# Altium schematic symbol library jlcpcb_2025_04_inductors_extended_1210.schlib: 422 symbols (part 4 of 8)
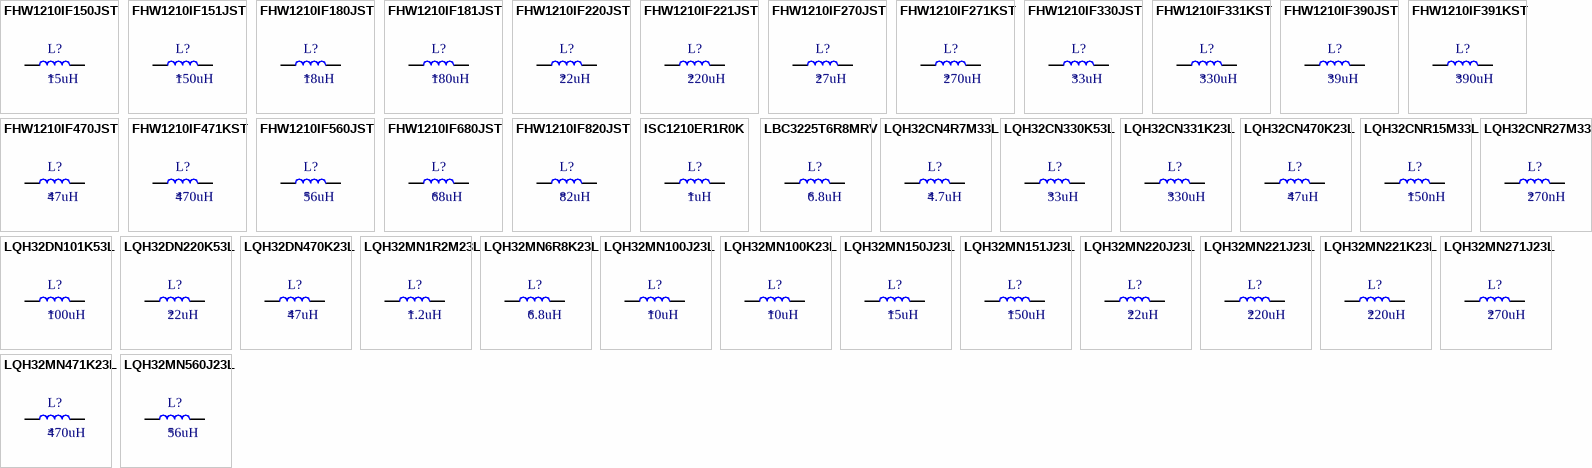
[diagram p13: symbols FHW1210IF150JST to LQH32MN560J23L]

## LQH32MN221J23L
designator L?  Inductance: 220uH
Inductor, 220uH, ±5%, 11.8Ω, 65mA, SMD 1210; Manufacturer: Murata Electronics; Manufacturer Part Number: LQH32MN221J23L; Package Size: 1210; JLCPCB Basic Part: No; JLCPCB Part Number: C701186; Supplier 1: LCSC; Category: Inductors; Supplier Part Number 1: C701186; Tolerance: ±5%; Rated Current: 65mA; DC Resistance: 11.8Ω; RoHS: Yes; ComponentLink1Description: Datasheet; ComponentLink1URL: https://wmsc.lcsc.com/wmsc/upload/file/pdf/v2/lcsc/2010231205_Murata-Electronics-LQH32MN221J23L_C701186.pdf; ComponentLink2Description: JLCPCB Part URL; ComponentLink2URL: https://jlcpcb.com/partdetail/C701186; ComponentLink3Description: LCSC Part URL; ComponentLink3URL: https://lcsc.com/product-detail/Power-Inductors_Murata-Electronics-Murata-Electronics-LQH32MN221J23L_C701186.html
footprint IND-1210 (1210 (3225M) Inductor)
pins: 1, 2

## LQH32MN221K23L
designator L?  Inductance: 220uH
Inductor, 220uH, ±10%, 11.8Ω, 65mA, SMD 1210; Manufacturer: Murata Electronics; Manufacturer Part Number: LQH32MN221K23L; Package Size: 1210; JLCPCB Basic Part: No; JLCPCB Part Number: C527972; Supplier 1: LCSC; Category: Inductors; Supplier Part Number 1: C527972; Tolerance: ±10%; Rated Current: 65mA; DC Resistance: 11.8Ω; RoHS: Yes; ComponentLink1Description: Datasheet; ComponentLink1URL: https://wmsc.lcsc.com/wmsc/upload/file/pdf/v2/lcsc/2304140030_Murata-Electronics-LQH32MN221K23L_C527972.pdf; ComponentLink2Description: JLCPCB Part URL; ComponentLink2URL: https://jlcpcb.com/partdetail/C527972; ComponentLink3Description: LCSC Part URL; ComponentLink3URL: https://lcsc.com/product-detail/Power-Inductors_Murata-Electronics-Murata-Electronics-LQH32MN221K23L_C527972.html
footprint IND-1210 (1210 (3225M) Inductor)
pins: 1, 2

## LQH32MN271J23L
designator L?  Inductance: 270uH
Inductor, 270uH, ±5%, 12.5Ω, 65mA, SMD 1210; Manufacturer: Murata Electronics; Manufacturer Part Number: LQH32MN271J23L; Package Size: 1210; JLCPCB Basic Part: No; JLCPCB Part Number: C440219; Supplier 1: LCSC; Category: Inductors; Supplier Part Number 1: C440219; Tolerance: ±5%; Rated Current: 65mA; DC Resistance: 12.5Ω; RoHS: Yes; ComponentLink1Description: Datasheet; ComponentLink1URL: https://wmsc.lcsc.com/wmsc/upload/file/pdf/v2/lcsc/2304140030_Murata-Electronics-LQH32MN271J23L_C440219.pdf; ComponentLink2Description: JLCPCB Part URL; ComponentLink2URL: https://jlcpcb.com/partdetail/C440219; ComponentLink3Description: LCSC Part URL; ComponentLink3URL: https://lcsc.com/product-detail/Power-Inductors_Murata-Electronics-Murata-Electronics-LQH32MN271J23L_C440219.html
footprint IND-1210 (1210 (3225M) Inductor)
pins: 1, 2

## LQH32MN471K23L
designator L?  Inductance: 470uH
Inductor, 470uH, ±10%, 25Ω, 45mA, SMD 1210; Manufacturer: Murata Electronics; Manufacturer Part Number: LQH32MN471K23L; Package Size: 1210; JLCPCB Basic Part: No; JLCPCB Part Number: C603128; Supplier 1: LCSC; Category: Inductors; Supplier Part Number 1: C603128; Tolerance: ±10%; Rated Current: 45mA; DC Resistance: 25Ω; RoHS: Yes; ComponentLink1Description: Datasheet; ComponentLink1URL: https://wmsc.lcsc.com/wmsc/upload/file/pdf/v2/lcsc/2304140030_Murata-Electronics-LQH32MN471K23L_C603128.pdf; ComponentLink2Description: JLCPCB Part URL; ComponentLink2URL: https://jlcpcb.com/partdetail/C603128; ComponentLink3Description: LCSC Part URL; ComponentLink3URL: https://lcsc.com/product-detail/Power-Inductors_Murata-Electronics-Murata-Electronics-LQH32MN471K23L_C603128.html
footprint IND-1210 (1210 (3225M) Inductor)
pins: 1, 2

## LQH32MN560J23L
designator L?  Inductance: 56uH
Inductor, 56uH, ±5%, 4.9Ω, 85mA, SMD 1210; Manufacturer: Murata Electronics; Manufacturer Part Number: LQH32MN560J23L; Package Size: 1210; JLCPCB Basic Part: No; JLCPCB Part Number: C440223; Supplier 1: LCSC; Category: Inductors; Supplier Part Number 1: C440223; Tolerance: ±5%; Rated Current: 85mA; DC Resistance: 4.9Ω; RoHS: Yes; ComponentLink1Description: Datasheet; ComponentLink1URL: https://wmsc.lcsc.com/wmsc/upload/file/pdf/v2/lcsc/2304140030_Murata-Electronics-LQH32MN560J23L_C440223.pdf; ComponentLink2Description: JLCPCB Part URL; ComponentLink2URL: https://jlcpcb.com/partdetail/C440223; ComponentLink3Description: LCSC Part URL; ComponentLink3URL: https://lcsc.com/product-detail/Power-Inductors_Murata-Electronics-Murata-Electronics-LQH32MN560J23L_C440223.html
footprint IND-1210 (1210 (3225M) Inductor)
pins: 1, 2

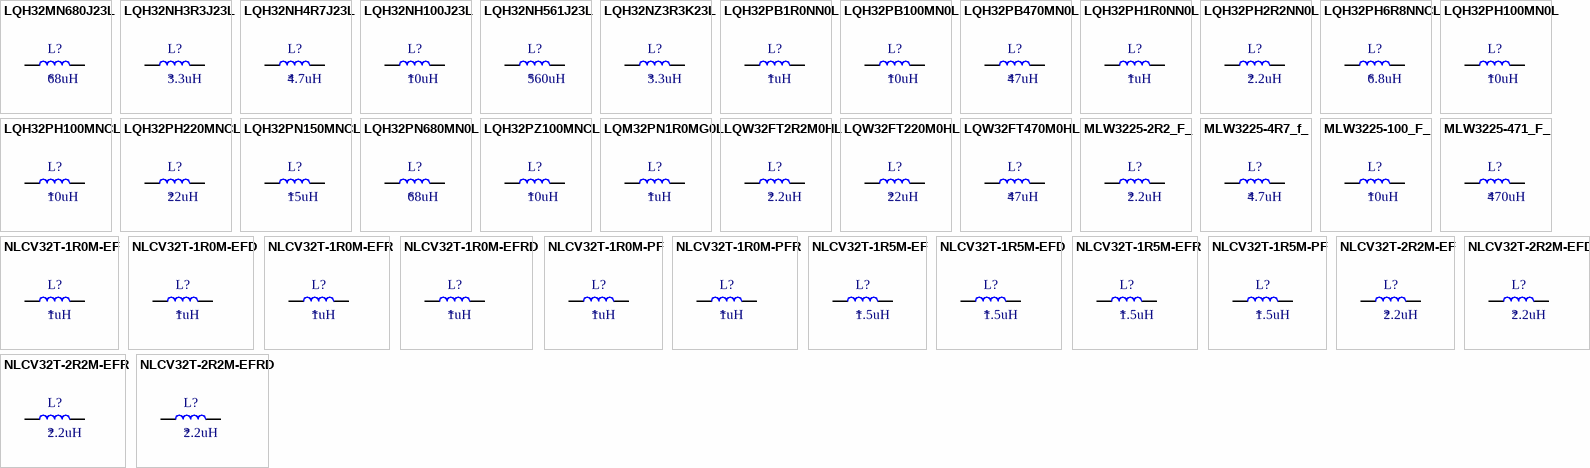
[diagram p4: symbols LQH32MN680J23L to NLCV32T-2R2M-EFRD]

## LQH32MN680J23L
designator L?  Inductance: 68uH
Inductor, 68uH, ±5%, 5.5Ω, SMD 1210; Manufacturer: Murata Electronics; Manufacturer Part Number: LQH32MN680J23L; Self-Resonant Frequency: 9MHz; Package Size: 1210; JLCPCB Basic Part: No; JLCPCB Part Number: C237321; Supplier 1: LCSC; Category: Inductors; Supplier Part Number 1: C237321; Tolerance: ±5%; DC Resistance: 5.5Ω; RoHS: Yes; ComponentLink1Description: Datasheet; ComponentLink1URL: https://wmsc.lcsc.com/wmsc/upload/file/pdf/v2/lcsc/2304140030_Murata-Electronics-LQH32MN680J23L_C237321.pdf; ComponentLink2Description: JLCPCB Part URL; ComponentLink2URL: https://jlcpcb.com/partdetail/C237321; ComponentLink3Description: LCSC Part URL; ComponentLink3URL: https://lcsc.com/product-detail/Inductors-SMD_Murata-Electronics-Murata-Electronics-LQH32MN680J23L_C237321.html
footprint IND-1210 (1210 (3225M) Inductor)
pins: 1, 2

## LQH32NH3R3J23L
designator L?  Inductance: 3.3uH
Inductor, 3.3uH, ±5%, 200mΩ, 425mA, SMD 1210; Manufacturer: Murata Electronics; Manufacturer Part Number: LQH32NH3R3J23L; Package Size: 1210; JLCPCB Basic Part: No; JLCPCB Part Number: C883491; Supplier 1: LCSC; Category: Inductors; Supplier Part Number 1: C883491; Tolerance: ±5%; Rated Current: 425mA; DC Resistance: 200mΩ; RoHS: Yes; ComponentLink1Description: Datasheet; ComponentLink1URL: https://wmsc.lcsc.com/wmsc/upload/file/pdf/v2/lcsc/2012231842_Murata-Electronics-LQH32NH3R3J23L_C883491.pdf; ComponentLink2Description: JLCPCB Part URL; ComponentLink2URL: https://jlcpcb.com/partdetail/C883491; ComponentLink3Description: LCSC Part URL; ComponentLink3URL: https://lcsc.com/product-detail/Power-Inductors_Murata-Electronics-Murata-Electronics-LQH32NH3R3J23L_C883491.html
footprint IND-1210 (1210 (3225M) Inductor)
pins: 1, 2

## LQH32NH4R7J23L
designator L?  Inductance: 4.7uH
Inductor, 4.7uH, ±5%, 210mΩ, 420mA, SMD 1210; Manufacturer: Murata Electronics; Manufacturer Part Number: LQH32NH4R7J23L; Package Size: 1210; JLCPCB Basic Part: No; JLCPCB Part Number: C2044651; Supplier 1: LCSC; Category: Inductors; Supplier Part Number 1: C2044651; Tolerance: ±5%; Rated Current: 420mA; DC Resistance: 210mΩ; RoHS: Yes; ComponentLink1Description: Datasheet; ComponentLink1URL: https://wmsc.lcsc.com/wmsc/upload/file/pdf/v2/lcsc/2304140030_Murata-Electronics-LQH32NH4R7J23L_C2044651.pdf; ComponentLink2Description: JLCPCB Part URL; ComponentLink2URL: https://jlcpcb.com/partdetail/C2044651; ComponentLink3Description: LCSC Part URL; ComponentLink3URL: https://lcsc.com/product-detail/Power-Inductors_Murata-Electronics-Murata-Electronics-LQH32NH4R7J23L_C2044651.html
footprint IND-1210 (1210 (3225M) Inductor)
pins: 1, 2

## LQH32NH100J23L
designator L?  Inductance: 10uH
Inductor, 10uH, ±5%, 340mΩ, 325mA, SMD 1210; Manufacturer: Murata Electronics; Manufacturer Part Number: LQH32NH100J23L; Package Size: 1210; JLCPCB Basic Part: No; JLCPCB Part Number: C2045047; Supplier 1: LCSC; Category: Inductors; Supplier Part Number 1: C2045047; Tolerance: ±5%; Rated Current: 325mA; DC Resistance: 340mΩ; RoHS: Yes; ComponentLink1Description: Datasheet; ComponentLink1URL: https://wmsc.lcsc.com/wmsc/upload/file/pdf/v2/lcsc/2304140030_Murata-Electronics-LQH32NH100J23L_C2045047.pdf; ComponentLink2Description: JLCPCB Part URL; ComponentLink2URL: https://jlcpcb.com/partdetail/C2045047; ComponentLink3Description: LCSC Part URL; ComponentLink3URL: https://lcsc.com/product-detail/Power-Inductors_Murata-Electronics-Murata-Electronics-LQH32NH100J23L_C2045047.html
footprint IND-1210 (1210 (3225M) Inductor)
pins: 1, 2

## LQH32NH561J23L
designator L?  Inductance: 560uH
Inductor, 560uH, ±5%, 14.6Ω, 40mA, SMD 1210; Manufacturer: Murata Electronics; Manufacturer Part Number: LQH32NH561J23L; Package Size: 1210; JLCPCB Basic Part: No; JLCPCB Part Number: C560068; Supplier 1: LCSC; Category: Inductors; Supplier Part Number 1: C560068; Tolerance: ±5%; Rated Current: 40mA; DC Resistance: 14.6Ω; RoHS: Yes; ComponentLink1Description: Datasheet; ComponentLink1URL: https://wmsc.lcsc.com/wmsc/upload/file/pdf/v2/lcsc/2304140030_Murata-Electronics-LQH32NH561J23L_C560068.pdf; ComponentLink2Description: JLCPCB Part URL; ComponentLink2URL: https://jlcpcb.com/partdetail/C560068; ComponentLink3Description: LCSC Part URL; ComponentLink3URL: https://lcsc.com/product-detail/Power-Inductors_Murata-Electronics-Murata-Electronics-LQH32NH561J23L_C560068.html
footprint IND-1210 (1210 (3225M) Inductor)
pins: 1, 2

## LQH32NZ3R3K23L
designator L?  Inductance: 3.3uH
Inductor, 3.3uH, ±10%, 1Ω, 300mA, SMD 1210; Manufacturer: Murata Electronics; Manufacturer Part Number: LQH32NZ3R3K23L; Package Size: 1210; JLCPCB Basic Part: No; JLCPCB Part Number: C560067; Supplier 1: LCSC; Category: Inductors; Supplier Part Number 1: C560067; Tolerance: ±10%; Rated Current: 300mA; DC Resistance: 1Ω; RoHS: Yes; ComponentLink1Description: Datasheet; ComponentLink1URL: https://wmsc.lcsc.com/wmsc/upload/file/pdf/v2/lcsc/2304140030_Murata-Electronics-LQH32NZ3R3K23L_C560067.pdf; ComponentLink2Description: JLCPCB Part URL; ComponentLink2URL: https://jlcpcb.com/partdetail/C560067; ComponentLink3Description: LCSC Part URL; ComponentLink3URL: https://lcsc.com/product-detail/Power-Inductors_Murata-Electronics-Murata-Electronics-LQH32NZ3R3K23L_C560067.html
footprint IND-1210 (1210 (3225M) Inductor)
pins: 1, 2

## LQH32PB1R0NN0L
designator L?  Inductance: 1uH
Inductor, 1uH, ±30%, 45mΩ, 2.05A, SMD 1210; Manufacturer: Murata Electronics; Manufacturer Part Number: LQH32PB1R0NN0L; Saturation Current: 2.3A; Package Size: 1210; JLCPCB Basic Part: No; JLCPCB Part Number: C703785; Supplier 1: LCSC; Category: Inductors; Supplier Part Number 1: C703785; Tolerance: ±30%; Rated Current: 2.05A; DC Resistance: 45mΩ; RoHS: Yes; ComponentLink1Description: Datasheet; ComponentLink1URL: https://wmsc.lcsc.com/wmsc/upload/file/pdf/v2/lcsc/2304140030_Murata-Electronics-LQH32PB1R0NN0L_C703785.pdf; ComponentLink2Description: JLCPCB Part URL; ComponentLink2URL: https://jlcpcb.com/partdetail/C703785; ComponentLink3Description: LCSC Part URL; ComponentLink3URL: https://lcsc.com/product-detail/Power-Inductors_Murata-Electronics-Murata-Electronics-LQH32PB1R0NN0L_C703785.html
footprint IND-1210 (1210 (3225M) Inductor)
pins: 1, 2

## LQH32PB100MN0L
designator L?  Inductance: 10uH
Inductor, 10uH, ±20%, 380mΩ, 700mA, SMD 1210; Manufacturer: Murata Electronics; Manufacturer Part Number: LQH32PB100MN0L; Saturation Current: 750mA; Package Size: 1210; JLCPCB Basic Part: No; JLCPCB Part Number: C703786; Supplier 1: LCSC; Category: Inductors; Supplier Part Number 1: C703786; Tolerance: ±20%; Rated Current: 700mA; DC Resistance: 380mΩ; RoHS: Yes; ComponentLink1Description: Datasheet; ComponentLink1URL: https://wmsc.lcsc.com/wmsc/upload/file/pdf/v2/lcsc/2008101235_Murata-Electronics-LQH32PB100MN0L_C703786.pdf; ComponentLink2Description: JLCPCB Part URL; ComponentLink2URL: https://jlcpcb.com/partdetail/C703786; ComponentLink3Description: LCSC Part URL; ComponentLink3URL: https://lcsc.com/product-detail/Power-Inductors_Murata-Electronics-Murata-Electronics-LQH32PB100MN0L_C703786.html
footprint IND-1210 (1210 (3225M) Inductor)
pins: 1, 2

## LQH32PB470MN0L
designator L?  Inductance: 47uH
Inductor, 47uH, ±20%, 1.78Ω, SMD 1210; Manufacturer: Murata Electronics; Manufacturer Part Number: LQH32PB470MN0L; Self-Resonant Frequency: 11MHz; Package Size: 1210; JLCPCB Basic Part: No; JLCPCB Part Number: C341773; Supplier 1: LCSC; Category: Inductors; Supplier Part Number 1: C341773; Tolerance: ±20%; DC Resistance: 1.78Ω; RoHS: Yes; ComponentLink1Description: Datasheet; ComponentLink1URL: https://wmsc.lcsc.com/wmsc/upload/file/pdf/v2/lcsc/1912111437_Murata-Electronics-LQH32PB470MN0L_C341773.pdf; ComponentLink2Description: JLCPCB Part URL; ComponentLink2URL: https://jlcpcb.com/partdetail/C341773; ComponentLink3Description: LCSC Part URL; ComponentLink3URL: https://lcsc.com/product-detail/Inductors-SMD_Murata-Electronics-Murata-Electronics-LQH32PB470MN0L_C341773.html
footprint IND-1210 (1210 (3225M) Inductor)
pins: 1, 2

## LQH32PH1R0NN0L
designator L?  Inductance: 1uH
Inductor, 1uH, ±30%, 45mΩ, 2.05A, SMD 1210; Manufacturer: Murata Electronics; Manufacturer Part Number: LQH32PH1R0NN0L; Saturation Current: 2.3A; Package Size: 1210; JLCPCB Basic Part: No; JLCPCB Part Number: C703782; Supplier 1: LCSC; Category: Inductors; Supplier Part Number 1: C703782; Tolerance: ±30%; Rated Current: 2.05A; DC Resistance: 45mΩ; RoHS: Yes; ComponentLink1Description: Datasheet; ComponentLink1URL: https://wmsc.lcsc.com/wmsc/upload/file/pdf/v2/lcsc/2304140030_Murata-Electronics-LQH32PH1R0NN0L_C703782.pdf; ComponentLink2Description: JLCPCB Part URL; ComponentLink2URL: https://jlcpcb.com/partdetail/C703782; ComponentLink3Description: LCSC Part URL; ComponentLink3URL: https://lcsc.com/product-detail/Power-Inductors_Murata-Electronics-Murata-Electronics-LQH32PH1R0NN0L_C703782.html
footprint IND-1210 (1210 (3225M) Inductor)
pins: 1, 2

## LQH32PH2R2NN0L
designator L?  Inductance: 2.2uH
Inductor, 2.2uH, ±30%, 76mΩ, SMD 1210; Manufacturer: Murata Electronics; Manufacturer Part Number: LQH32PH2R2NN0L; Saturation Current: 1.55A; Package Size: 1210; JLCPCB Basic Part: No; JLCPCB Part Number: C883489; Supplier 1: LCSC; Category: Inductors; Supplier Part Number 1: C883489; Tolerance: ±30%; DC Resistance: 76mΩ; RoHS: Yes; ComponentLink1Description: Datasheet; ComponentLink1URL: https://wmsc.lcsc.com/wmsc/upload/file/pdf/v2/lcsc/2304140030_Murata-Electronics-LQH32PH2R2NN0L_C883489.pdf; ComponentLink2Description: JLCPCB Part URL; ComponentLink2URL: https://jlcpcb.com/partdetail/C883489; ComponentLink3Description: LCSC Part URL; ComponentLink3URL: https://lcsc.com/product-detail/Power-Inductors_Murata-Electronics-Murata-Electronics-LQH32PH2R2NN0L_C883489.html
footprint IND-1210 (1210 (3225M) Inductor)
pins: 1, 2

## LQH32PH6R8NNCL
designator L?  Inductance: 6.8uH
Inductor, 6.8uH, ±30%, 220mΩ, 1.1A, SMD 1210; Manufacturer: Murata Electronics; Manufacturer Part Number: LQH32PH6R8NNCL; Saturation Current: 1.3A; Self-Resonant Frequency: 40MHz; Package Size: 1210; JLCPCB Basic Part: No; JLCPCB Part Number: C1330927; Supplier 1: LCSC; Category: Inductors; Supplier Part Number 1: C1330927; Tolerance: ±30%; Rated Current: 1.1A; DC Resistance: 220mΩ; RoHS: Yes; ComponentLink1Description: Datasheet; ComponentLink1URL: https://wmsc.lcsc.com/wmsc/upload/file/pdf/v2/lcsc/2304140030_Murata-Electronics-LQH32PH6R8NNCL_C1330927.pdf; ComponentLink2Description: JLCPCB Part URL; ComponentLink2URL: https://jlcpcb.com/partdetail/C1330927; ComponentLink3Description: LCSC Part URL; ComponentLink3URL: https://lcsc.com/product-detail/Inductors-SMD_Murata-Electronics-Murata-Electronics-LQH32PH6R8NNCL_C1330927.html
footprint IND-1210 (1210 (3225M) Inductor)
pins: 1, 2

## LQH32PH100MN0L
designator L?  Inductance: 10uH
Inductor, 10uH, ±20%, 380mΩ, SMD 1210; Manufacturer: Murata Electronics; Manufacturer Part Number: LQH32PH100MN0L; Self-Resonant Frequency: 30MHz; Package Size: 1210; JLCPCB Basic Part: No; JLCPCB Part Number: C907910; Supplier 1: LCSC; Category: Inductors; Supplier Part Number 1: C907910; Tolerance: ±20%; DC Resistance: 380mΩ; RoHS: Yes; ComponentLink1Description: Datasheet; ComponentLink1URL: https://wmsc.lcsc.com/wmsc/upload/file/pdf/v2/lcsc/2304140030_Murata-Electronics-LQH32PH100MN0L_C907910.pdf; ComponentLink2Description: JLCPCB Part URL; ComponentLink2URL: https://jlcpcb.com/partdetail/C907910; ComponentLink3Description: LCSC Part URL; ComponentLink3URL: https://lcsc.com/product-detail/Inductors-SMD_Murata-Electronics-Murata-Electronics-LQH32PH100MN0L_C907910.html
footprint IND-1210 (1210 (3225M) Inductor)
pins: 1, 2

## LQH32PH100MNCL
designator L?  Inductance: 10uH
Inductor, 10uH, ±20%, 295mΩ, 900mA, SMD 1210; Manufacturer: Murata Electronics; Manufacturer Part Number: LQH32PH100MNCL; Saturation Current: 1A; Package Size: 1210; JLCPCB Basic Part: No; JLCPCB Part Number: C703784; Supplier 1: LCSC; Category: Inductors; Supplier Part Number 1: C703784; Tolerance: ±20%; Rated Current: 900mA; DC Resistance: 295mΩ; RoHS: Yes; ComponentLink1Description: Datasheet; ComponentLink1URL: https://wmsc.lcsc.com/wmsc/upload/file/pdf/v2/lcsc/2304140030_Murata-Electronics-LQH32PH100MNCL_C703784.pdf; ComponentLink2Description: JLCPCB Part URL; ComponentLink2URL: https://jlcpcb.com/partdetail/C703784; ComponentLink3Description: LCSC Part URL; ComponentLink3URL: https://lcsc.com/product-detail/Power-Inductors_Murata-Electronics-Murata-Electronics-LQH32PH100MNCL_C703784.html
footprint IND-1210 (1210 (3225M) Inductor)
pins: 1, 2

## LQH32PH220MNCL
designator L?  Inductance: 22uH
Inductor, 22uH, ±20%, 685mΩ, SMD 1210; Manufacturer: Murata Electronics; Manufacturer Part Number: LQH32PH220MNCL; Self-Resonant Frequency: 20MHz; Package Size: 1210; JLCPCB Basic Part: No; JLCPCB Part Number: C307600; Supplier 1: LCSC; Category: Inductors; Supplier Part Number 1: C307600; Tolerance: ±20%; DC Resistance: 685mΩ; RoHS: Yes; ComponentLink1Description: Datasheet; ComponentLink1URL: https://wmsc.lcsc.com/wmsc/upload/file/pdf/v2/lcsc/1912111437_Murata-Electronics-LQH32PH220MNCL_C307600.pdf; ComponentLink2Description: JLCPCB Part URL; ComponentLink2URL: https://jlcpcb.com/partdetail/C307600; ComponentLink3Description: LCSC Part URL; ComponentLink3URL: https://lcsc.com/product-detail/Inductors-SMD_Murata-Electronics-Murata-Electronics-LQH32PH220MNCL_C307600.html
footprint IND-1210 (1210 (3225M) Inductor)
pins: 1, 2

## LQH32PN150MNCL
designator L?  Inductance: 15uH
Inductor, 15uH, ±20%, 570mΩ, 700mA, SMD 1210; Manufacturer: Murata Electronics; Manufacturer Part Number: LQH32PN150MNCL; Saturation Current: 800mA; Package Size: 1210; JLCPCB Basic Part: No; JLCPCB Part Number: C711135; Supplier 1: LCSC; Category: Inductors; Supplier Part Number 1: C711135; Tolerance: ±20%; Rated Current: 700mA; DC Resistance: 570mΩ; RoHS: Yes; ComponentLink1Description: Datasheet; ComponentLink1URL: https://wmsc.lcsc.com/wmsc/upload/file/pdf/v2/lcsc/2211030130_Murata-Electronics-LQH32PN150MNCL_C711135.pdf; ComponentLink2Description: JLCPCB Part URL; ComponentLink2URL: https://jlcpcb.com/partdetail/C711135; ComponentLink3Description: LCSC Part URL; ComponentLink3URL: https://lcsc.com/product-detail/Power-Inductors_Murata-Electronics-Murata-Electronics-LQH32PN150MNCL_C711135.html
footprint IND-1210 (1210 (3225M) Inductor)
pins: 1, 2

## LQH32PN680MN0L
designator L?  Inductance: 68uH
Inductor, 68uH, ±20%, 2.74Ω, 275mA, SMD 1210; Manufacturer: Murata Electronics; Manufacturer Part Number: LQH32PN680MN0L; Saturation Current: 280mA; Package Size: 1210; JLCPCB Basic Part: No; JLCPCB Part Number: C2049546; Supplier 1: LCSC; Category: Inductors; Supplier Part Number 1: C2049546; Tolerance: ±20%; Rated Current: 275mA; DC Resistance: 2.74Ω; RoHS: Yes; ComponentLink1Description: Datasheet; ComponentLink1URL: https://wmsc.lcsc.com/wmsc/upload/file/pdf/v2/lcsc/2401261034_Murata-Electronics-LQH32PN680MN0L_C2049546.pdf; ComponentLink2Description: JLCPCB Part URL; ComponentLink2URL: https://jlcpcb.com/partdetail/C2049546; ComponentLink3Description: LCSC Part URL; ComponentLink3URL: https://lcsc.com/product-detail/Power-Inductors_Murata-Electronics-Murata-Electronics-LQH32PN680MN0L_C2049546.html
footprint IND-1210 (1210 (3225M) Inductor)
pins: 1, 2

## LQH32PZ100MNCL
designator L?  Inductance: 10uH
Inductor, 10uH, ±20%, 295mΩ, 900mA, SMD 1210; Manufacturer: Murata Electronics; Manufacturer Part Number: LQH32PZ100MNCL; Saturation Current: 1A; Self-Resonant Frequency: 30MHz; Package Size: 1210; JLCPCB Basic Part: No; JLCPCB Part Number: C464437; Supplier 1: LCSC; Category: Inductors; Supplier Part Number 1: C464437; Tolerance: ±20%; Rated Current: 900mA; DC Resistance: 295mΩ; RoHS: Yes; ComponentLink1Description: Datasheet; ComponentLink1URL: https://wmsc.lcsc.com/wmsc/upload/file/pdf/v2/lcsc/1912111437_Murata-Electronics-LQH32PZ100MNCL_C464437.pdf; ComponentLink2Description: JLCPCB Part URL; ComponentLink2URL: https://jlcpcb.com/partdetail/C464437; ComponentLink3Description: LCSC Part URL; ComponentLink3URL: https://lcsc.com/product-detail/Inductors-SMD_Murata-Electronics-Murata-Electronics-LQH32PZ100MNCL_C464437.html
footprint IND-1210 (1210 (3225M) Inductor)
pins: 1, 2

## LQM32PN1R0MG0L
designator L?  Inductance: 1uH
Inductor, 1uH, ±20%, 60mΩ, 1.8A, SMD 1210; Manufacturer: Murata Electronics; Manufacturer Part Number: LQM32PN1R0MG0L; Self-Resonant Frequency: 1MHz; Package Size: 1210; JLCPCB Basic Part: No; JLCPCB Part Number: C527588; Supplier 1: LCSC; Category: Inductors; Supplier Part Number 1: C527588; Tolerance: ±20%; Rated Current: 1.8A; DC Resistance: 60mΩ; RoHS: Yes; ComponentLink1Description: Datasheet; ComponentLink1URL: https://wmsc.lcsc.com/wmsc/upload/file/pdf/v2/lcsc/2304140030_Murata-Electronics-LQM32PN1R0MG0L_C527588.pdf; ComponentLink2Description: JLCPCB Part URL; ComponentLink2URL: https://jlcpcb.com/partdetail/C527588; ComponentLink3Description: LCSC Part URL; ComponentLink3URL: https://lcsc.com/product-detail/Inductors-SMD_Murata-Electronics-Murata-Electronics-LQM32PN1R0MG0L_C527588.html
footprint IND-1210 (1210 (3225M) Inductor)
pins: 1, 2

## LQW32FT2R2M0HL
designator L?  Inductance: 2.2uH
Inductor, 2.2uH, ±20%, 190mΩ, 1A, SMD 1210; Manufacturer: Murata Electronics; Manufacturer Part Number: LQW32FT2R2M0HL; Self-Resonant Frequency: 200MHz; Package Size: 1210; JLCPCB Basic Part: No; JLCPCB Part Number: C883486; Supplier 1: LCSC; Category: Inductors; Supplier Part Number 1: C883486; Tolerance: ±20%; Rated Current: 1A; Saturation Current: 1A; DC Resistance: 190mΩ; RoHS: Yes; ComponentLink1Description: Datasheet; ComponentLink1URL: https://wmsc.lcsc.com/wmsc/upload/file/pdf/v2/lcsc/2111181830_Murata-Electronics-LQW32FT2R2M0HL_C883486.pdf; ComponentLink2Description: JLCPCB Part URL; ComponentLink2URL: https://jlcpcb.com/partdetail/C883486; ComponentLink3Description: LCSC Part URL; ComponentLink3URL: https://lcsc.com/product-detail/Inductors-SMD_Murata-Electronics-Murata-Electronics-LQW32FT2R2M0HL_C883486.html
footprint IND-1210 (1210 (3225M) Inductor)
pins: 1, 2

## LQW32FT220M0HL
designator L?  Inductance: 22uH
Inductor, 22uH, ±20%, 620mΩ, 400mA, SMD 1210; Manufacturer: Murata Electronics; Manufacturer Part Number: LQW32FT220M0HL; Package Size: 1210; JLCPCB Basic Part: No; JLCPCB Part Number: C2045315; Supplier 1: LCSC; Category: Inductors; Supplier Part Number 1: C2045315; Tolerance: ±20%; Rated Current: 400mA; Saturation Current: 400mA; DC Resistance: 620mΩ; RoHS: Yes; ComponentLink1Description: Datasheet; ComponentLink1URL: https://wmsc.lcsc.com/wmsc/upload/file/pdf/v2/lcsc/2304140030_Murata-Electronics-LQW32FT220M0HL_C2045315.pdf; ComponentLink2Description: JLCPCB Part URL; ComponentLink2URL: https://jlcpcb.com/partdetail/C2045315; ComponentLink3Description: LCSC Part URL; ComponentLink3URL: https://lcsc.com/product-detail/Power-Inductors_Murata-Electronics-Murata-Electronics-LQW32FT220M0HL_C2045315.html
footprint IND-1210 (1210 (3225M) Inductor)
pins: 1, 2

## LQW32FT470M0HL
designator L?  Inductance: 47uH
Inductor, 47uH, ±20%, 900mΩ, 300mA, SMD 1210; Manufacturer: Murata Electronics; Manufacturer Part Number: LQW32FT470M0HL; Package Size: 1210; JLCPCB Basic Part: No; JLCPCB Part Number: C907956; Supplier 1: LCSC; Category: Inductors; Supplier Part Number 1: C907956; Tolerance: ±20%; Rated Current: 300mA; Saturation Current: 300mA; DC Resistance: 900mΩ; RoHS: Yes; ComponentLink1Description: Datasheet; ComponentLink1URL: https://wmsc.lcsc.com/wmsc/upload/file/pdf/v2/lcsc/2201242100_Murata-Electronics-LQW32FT470M0HL_C907956.pdf; ComponentLink2Description: JLCPCB Part URL; ComponentLink2URL: https://jlcpcb.com/partdetail/C907956; ComponentLink3Description: LCSC Part URL; ComponentLink3URL: https://lcsc.com/product-detail/Power-Inductors_Murata-Electronics-Murata-Electronics-LQW32FT470M0HL_C907956.html
footprint IND-1210 (1210 (3225M) Inductor)
pins: 1, 2

## MLW3225-2R2_F_
designator L?  Inductance: 2.2uH
Inductor, 2.2uH, ±5%, 1Ω, 320mA, SMD 1210; Manufacturer: Meled; Manufacturer Part Number: MLW3225-2R2(F); Package Size: 1210; JLCPCB Basic Part: No; JLCPCB Part Number: C36828; Supplier 1: LCSC; Category: Inductors; Supplier Part Number 1: C36828; Tolerance: ±5%; Rated Current: 320mA; DC Resistance: 1Ω; RoHS: Yes; ComponentLink1Description: Datasheet; ComponentLink1URL: https://wmsc.lcsc.com/wmsc/upload/file/pdf/v2/lcsc/1811081811_MetalLions-MLW3225-2R2-F_C36828.pdf; ComponentLink2Description: JLCPCB Part URL; ComponentLink2URL: https://jlcpcb.com/partdetail/C36828; ComponentLink3Description: LCSC Part URL; ComponentLink3URL: https://lcsc.com/product-detail/Inductors-SMD_Meled-Meled-MLW3225-2R2F_C36828.html
footprint IND-1210 (1210 (3225M) Inductor)
pins: 1, 2

## MLW3225-4R7_f_
designator L?  Inductance: 4.7uH
Inductor, 4.7uH, ±5%, 1.6Ω, 220mA, SMD 1210; Manufacturer: Meled; Manufacturer Part Number: MLW3225-4R7(f); Package Size: 1210; JLCPCB Basic Part: No; JLCPCB Part Number: C56767; Supplier 1: LCSC; Category: Inductors; Supplier Part Number 1: C56767; Tolerance: ±5%; Rated Current: 220mA; DC Resistance: 1.6Ω; RoHS: Yes; ComponentLink1Description: Datasheet; ComponentLink1URL: https://wmsc.lcsc.com/wmsc/upload/file/pdf/v2/lcsc/1809191912_MetalLions-MLW3225-4R7-f_C56767.pdf; ComponentLink2Description: JLCPCB Part URL; ComponentLink2URL: https://jlcpcb.com/partdetail/C56767; ComponentLink3Description: LCSC Part URL; ComponentLink3URL: https://lcsc.com/product-detail/Inductors-SMD_Meled-Meled-MLW3225-4R7f_C56767.html
footprint IND-1210 (1210 (3225M) Inductor)
pins: 1, 2

## MLW3225-100_F_
designator L?  Inductance: 10uH
Inductor, 10uH, ±5%, 2.1Ω, 150mA, SMD 1210; Manufacturer: Meled; Manufacturer Part Number: MLW3225-100(F); Package Size: 1210; JLCPCB Basic Part: No; JLCPCB Part Number: C31961; Supplier 1: LCSC; Category: Inductors; Supplier Part Number 1: C31961; Tolerance: ±5%; Rated Current: 150mA; DC Resistance: 2.1Ω; RoHS: Yes; ComponentLink1Description: Datasheet; ComponentLink1URL: https://wmsc.lcsc.com/wmsc/upload/file/pdf/v2/lcsc/1810261633_MetalLions-MLW3225-100-F_C31961.pdf; ComponentLink2Description: JLCPCB Part URL; ComponentLink2URL: https://jlcpcb.com/partdetail/C31961; ComponentLink3Description: LCSC Part URL; ComponentLink3URL: https://lcsc.com/product-detail/Inductors-SMD_Meled-Meled-MLW3225-100F_C31961.html
footprint IND-1210 (1210 (3225M) Inductor)
pins: 1, 2

## MLW3225-471_F_
designator L?  Inductance: 470uH
Inductor, 470uH, ±5%, 40Ω, 25mA, SMD 1210; Manufacturer: Meled; Manufacturer Part Number: MLW3225-471(F); Package Size: 1210; JLCPCB Basic Part: No; JLCPCB Part Number: C63833; Supplier 1: LCSC; Category: Inductors; Supplier Part Number 1: C63833; Tolerance: ±5%; Rated Current: 25mA; DC Resistance: 40Ω; RoHS: Yes; ComponentLink1Description: Datasheet; ComponentLink1URL: https://wmsc.lcsc.com/wmsc/upload/file/pdf/v2/lcsc/1809301612_MetalLions-MLW3225-471-F_C63833.pdf; ComponentLink2Description: JLCPCB Part URL; ComponentLink2URL: https://jlcpcb.com/partdetail/C63833; ComponentLink3Description: LCSC Part URL; ComponentLink3URL: https://lcsc.com/product-detail/Inductors-SMD_Meled-Meled-MLW3225-471F_C63833.html
footprint IND-1210 (1210 (3225M) Inductor)
pins: 1, 2

## NLCV32T-1R0M-EF
designator L?  Inductance: 1uH
Inductor, 1uH, ±20%, 60mΩ, 1A, SMD 1210; Manufacturer: TDK; Manufacturer Part Number: NLCV32T-1R0M-EF; Self-Resonant Frequency: 100MHz; Q Factor: 10@7.96MHz; Package Size: 1210; JLCPCB Basic Part: No; JLCPCB Part Number: C250225; Supplier 1: LCSC; Category: Inductors; Supplier Part Number 1: C250225; Tolerance: ±20%; Rated Current: 1A; DC Resistance: 60mΩ; RoHS: Yes; ComponentLink1Description: Datasheet; ComponentLink1URL: https://wmsc.lcsc.com/wmsc/upload/file/pdf/v2/lcsc/2304140030_TDK-NLCV32T-1R0M-EF_C250225.pdf; ComponentLink2Description: JLCPCB Part URL; ComponentLink2URL: https://jlcpcb.com/partdetail/C250225; ComponentLink3Description: LCSC Part URL; ComponentLink3URL: https://lcsc.com/product-detail/Inductors-SMD_TDK-TDK-NLCV32T-1R0M-EF_C250225.html
footprint IND-1210 (1210 (3225M) Inductor)
pins: 1, 2

## NLCV32T-1R0M-EFD
designator L?  Inductance: 1uH
Inductor, 1uH, ±20%, 60mΩ, 1A, SMD 1210; Manufacturer: TDK; Manufacturer Part Number: NLCV32T-1R0M-EFD; Self-Resonant Frequency: 100MHz; Q Factor: 10@7.96MHz; Package Size: 1210; JLCPCB Basic Part: No; JLCPCB Part Number: C295380; Supplier 1: LCSC; Category: Inductors; Supplier Part Number 1: C295380; Tolerance: ±20%; Rated Current: 1A; DC Resistance: 60mΩ; RoHS: Yes; ComponentLink1Description: Datasheet; ComponentLink1URL: https://wmsc.lcsc.com/wmsc/upload/file/pdf/v2/lcsc/2304140030_TDK-NLCV32T-1R0M-EFD_C295380.pdf; ComponentLink2Description: JLCPCB Part URL; ComponentLink2URL: https://jlcpcb.com/partdetail/C295380; ComponentLink3Description: LCSC Part URL; ComponentLink3URL: https://lcsc.com/product-detail/Inductors-SMD_TDK-TDK-NLCV32T-1R0M-EFD_C295380.html
footprint IND-1210 (1210 (3225M) Inductor)
pins: 1, 2

## NLCV32T-1R0M-EFR
designator L?  Inductance: 1uH
Inductor, 1uH, ±20%, 55mΩ, 1.7A, SMD 1210; Manufacturer: TDK; Manufacturer Part Number: NLCV32T-1R0M-EFR; Q Factor: 15@7.96MHz; Package Size: 1210; JLCPCB Basic Part: No; JLCPCB Part Number: C295197; Supplier 1: LCSC; Category: Inductors; Supplier Part Number 1: C295197; Tolerance: ±20%; Rated Current: 1.7A; DC Resistance: 55mΩ; RoHS: Yes; ComponentLink1Description: Datasheet; ComponentLink1URL: https://wmsc.lcsc.com/wmsc/upload/file/pdf/v2/lcsc/2304140030_TDK-NLCV32T-1R0M-EFR_C295197.pdf; ComponentLink2Description: JLCPCB Part URL; ComponentLink2URL: https://jlcpcb.com/partdetail/C295197; ComponentLink3Description: LCSC Part URL; ComponentLink3URL: https://lcsc.com/product-detail/Inductors-SMD_TDK-TDK-NLCV32T-1R0M-EFR_C295197.html
footprint IND-1210 (1210 (3225M) Inductor)
pins: 1, 2

## NLCV32T-1R0M-EFRD
designator L?  Inductance: 1uH
Inductor, 1uH, ±20%, 55mΩ, 1.7A, SMD 1210; Manufacturer: TDK; Manufacturer Part Number: NLCV32T-1R0M-EFRD; Self-Resonant Frequency: 100MHz; Q Factor: 15@7.96MHz; Package Size: 1210; JLCPCB Basic Part: No; JLCPCB Part Number: C286543; Supplier 1: LCSC; Category: Inductors; Supplier Part Number 1: C286543; Tolerance: ±20%; Rated Current: 1.7A; DC Resistance: 55mΩ; RoHS: Yes; ComponentLink1Description: Datasheet; ComponentLink1URL: https://wmsc.lcsc.com/wmsc/upload/file/pdf/v2/lcsc/2304140030_TDK-NLCV32T-1R0M-EFRD_C286543.pdf; ComponentLink2Description: JLCPCB Part URL; ComponentLink2URL: https://jlcpcb.com/partdetail/C286543; ComponentLink3Description: LCSC Part URL; ComponentLink3URL: https://lcsc.com/product-detail/Inductors-SMD_TDK-TDK-NLCV32T-1R0M-EFRD_C286543.html
footprint IND-1210 (1210 (3225M) Inductor)
pins: 1, 2

## NLCV32T-1R0M-PF
designator L?  Inductance: 1uH
Inductor, 1uH, ±20%, 60mΩ, 1A, SMD 1210; Manufacturer: TDK; Manufacturer Part Number: NLCV32T-1R0M-PF; Self-Resonant Frequency: 100MHz; Q Factor: 10@7.96MHz; Package Size: 1210; JLCPCB Basic Part: No; JLCPCB Part Number: C250182; Supplier 1: LCSC; Category: Inductors; Supplier Part Number 1: C250182; Tolerance: ±20%; Rated Current: 1A; DC Resistance: 60mΩ; RoHS: Yes; ComponentLink1Description: Datasheet; ComponentLink1URL: https://wmsc.lcsc.com/wmsc/upload/file/pdf/v2/lcsc/2304140030_TDK-NLCV32T-1R0M-PF_C250182.pdf; ComponentLink2Description: JLCPCB Part URL; ComponentLink2URL: https://jlcpcb.com/partdetail/C250182; ComponentLink3Description: LCSC Part URL; ComponentLink3URL: https://lcsc.com/product-detail/Inductors-SMD_TDK-TDK-NLCV32T-1R0M-PF_C250182.html
footprint IND-1210 (1210 (3225M) Inductor)
pins: 1, 2

## NLCV32T-1R0M-PFR
designator L?  Inductance: 1uH
Inductor, 1uH, ±20%, 55mΩ, 1.7A, SMD 1210; Manufacturer: TDK; Manufacturer Part Number: NLCV32T-1R0M-PFR; Self-Resonant Frequency: 100MHz; Q Factor: 15@7.96MHz; Package Size: 1210; JLCPCB Basic Part: No; JLCPCB Part Number: C501992; Supplier 1: LCSC; Category: Inductors; Supplier Part Number 1: C501992; Tolerance: ±20%; Rated Current: 1.7A; DC Resistance: 55mΩ; RoHS: Yes; ComponentLink1Description: Datasheet; ComponentLink1URL: https://wmsc.lcsc.com/wmsc/upload/file/pdf/v2/lcsc/2304140030_TDK-NLCV32T-1R0M-PFR_C501992.pdf; ComponentLink2Description: JLCPCB Part URL; ComponentLink2URL: https://jlcpcb.com/partdetail/C501992; ComponentLink3Description: LCSC Part URL; ComponentLink3URL: https://lcsc.com/product-detail/Inductors-SMD_TDK-TDK-NLCV32T-1R0M-PFR_C501992.html
footprint IND-1210 (1210 (3225M) Inductor)
pins: 1, 2

## NLCV32T-1R5M-EF
designator L?  Inductance: 1.5uH
Inductor, 1.5uH, ±20%, 110mΩ, 830mA, SMD 1210; Manufacturer: TDK; Manufacturer Part Number: NLCV32T-1R5M-EF; Self-Resonant Frequency: 80MHz; Q Factor: 10@7.96MHz; Package Size: 1210; JLCPCB Basic Part: No; JLCPCB Part Number: C250226; Supplier 1: LCSC; Category: Inductors; Supplier Part Number 1: C250226; Tolerance: ±20%; Rated Current: 830mA; DC Resistance: 110mΩ; RoHS: Yes; ComponentLink1Description: Datasheet; ComponentLink1URL: https://wmsc.lcsc.com/wmsc/upload/file/pdf/v2/lcsc/2304140030_TDK-NLCV32T-1R5M-EF_C250226.pdf; ComponentLink2Description: JLCPCB Part URL; ComponentLink2URL: https://jlcpcb.com/partdetail/C250226; ComponentLink3Description: LCSC Part URL; ComponentLink3URL: https://lcsc.com/product-detail/Inductors-SMD_TDK-TDK-NLCV32T-1R5M-EF_C250226.html
footprint IND-1210 (1210 (3225M) Inductor)
pins: 1, 2

## NLCV32T-1R5M-EFD
designator L?  Inductance: 1.5uH
Inductor, 1.5uH, ±20%, 110mΩ, 830mA, SMD 1210; Manufacturer: TDK; Manufacturer Part Number: NLCV32T-1R5M-EFD; Self-Resonant Frequency: 80MHz; Q Factor: 10@7.96MHz; Package Size: 1210; JLCPCB Basic Part: No; JLCPCB Part Number: C295381; Supplier 1: LCSC; Category: Inductors; Supplier Part Number 1: C295381; Tolerance: ±20%; Rated Current: 830mA; DC Resistance: 110mΩ; RoHS: Yes; ComponentLink1Description: Datasheet; ComponentLink1URL: https://wmsc.lcsc.com/wmsc/upload/file/pdf/v2/lcsc/2304140030_TDK-NLCV32T-1R5M-EFD_C295381.pdf; ComponentLink2Description: JLCPCB Part URL; ComponentLink2URL: https://jlcpcb.com/partdetail/C295381; ComponentLink3Description: LCSC Part URL; ComponentLink3URL: https://lcsc.com/product-detail/Inductors-SMD_TDK-TDK-NLCV32T-1R5M-EFD_C295381.html
footprint IND-1210 (1210 (3225M) Inductor)
pins: 1, 2

## NLCV32T-1R5M-EFR
designator L?  Inductance: 1.5uH
Inductor, 1.5uH, ±20%, 95mΩ, 1.4A, SMD 1210; Manufacturer: TDK; Manufacturer Part Number: NLCV32T-1R5M-EFR; Q Factor: 15@7.96MHz; Package Size: 1210; JLCPCB Basic Part: No; JLCPCB Part Number: C286544; Supplier 1: LCSC; Category: Inductors; Supplier Part Number 1: C286544; Tolerance: ±20%; Rated Current: 1.4A; DC Resistance: 95mΩ; RoHS: Yes; ComponentLink1Description: Datasheet; ComponentLink1URL: https://wmsc.lcsc.com/wmsc/upload/file/pdf/v2/lcsc/2304140030_TDK-NLCV32T-1R5M-EFR_C286544.pdf; ComponentLink2Description: JLCPCB Part URL; ComponentLink2URL: https://jlcpcb.com/partdetail/C286544; ComponentLink3Description: LCSC Part URL; ComponentLink3URL: https://lcsc.com/product-detail/Inductors-SMD_TDK-TDK-NLCV32T-1R5M-EFR_C286544.html
footprint IND-1210 (1210 (3225M) Inductor)
pins: 1, 2

## NLCV32T-1R5M-PF
designator L?  Inductance: 1.5uH
Inductor, 1.5uH, ±20%, 110mΩ, 830mA, SMD 1210; Manufacturer: TDK; Manufacturer Part Number: NLCV32T-1R5M-PF; Self-Resonant Frequency: 80MHz; Q Factor: 10@7.96MHz; Package Size: 1210; JLCPCB Basic Part: No; JLCPCB Part Number: C87556; Supplier 1: LCSC; Category: Inductors; Supplier Part Number 1: C87556; Tolerance: ±20%; Rated Current: 830mA; DC Resistance: 110mΩ; RoHS: Yes; ComponentLink1Description: Datasheet; ComponentLink1URL: https://wmsc.lcsc.com/wmsc/upload/file/pdf/v2/lcsc/2304140030_TDK-NLCV32T-1R5M-PF_C87556.pdf; ComponentLink2Description: JLCPCB Part URL; ComponentLink2URL: https://jlcpcb.com/partdetail/C87556; ComponentLink3Description: LCSC Part URL; ComponentLink3URL: https://lcsc.com/product-detail/Inductors-SMD_TDK-TDK-NLCV32T-1R5M-PF_C87556.html
footprint IND-1210 (1210 (3225M) Inductor)
pins: 1, 2

## NLCV32T-2R2M-EF
designator L?  Inductance: 2.2uH
Inductor, 2.2uH, ±20%, 130mΩ, 770mA, SMD 1210; Manufacturer: TDK; Manufacturer Part Number: NLCV32T-2R2M-EF; Self-Resonant Frequency: 68MHz; Q Factor: 10@7.96MHz; Package Size: 1210; JLCPCB Basic Part: No; JLCPCB Part Number: C250227; Supplier 1: LCSC; Category: Inductors; Supplier Part Number 1: C250227; Tolerance: ±20%; Rated Current: 770mA; DC Resistance: 130mΩ; RoHS: Yes; ComponentLink1Description: Datasheet; ComponentLink1URL: https://wmsc.lcsc.com/wmsc/upload/file/pdf/v2/lcsc/2304140030_TDK-NLCV32T-2R2M-EF_C250227.pdf; ComponentLink2Description: JLCPCB Part URL; ComponentLink2URL: https://jlcpcb.com/partdetail/C250227; ComponentLink3Description: LCSC Part URL; ComponentLink3URL: https://lcsc.com/product-detail/Inductors-SMD_TDK-TDK-NLCV32T-2R2M-EF_C250227.html
footprint IND-1210 (1210 (3225M) Inductor)
pins: 1, 2

## NLCV32T-2R2M-EFD
designator L?  Inductance: 2.2uH
Inductor, 2.2uH, ±20%, 130mΩ, 770mA, SMD 1210; Manufacturer: TDK; Manufacturer Part Number: NLCV32T-2R2M-EFD; Self-Resonant Frequency: 68MHz; Q Factor: 10@7.96MHz; Package Size: 1210; JLCPCB Basic Part: No; JLCPCB Part Number: C286545; Supplier 1: LCSC; Category: Inductors; Supplier Part Number 1: C286545; Tolerance: ±20%; Rated Current: 770mA; DC Resistance: 130mΩ; RoHS: Yes; ComponentLink1Description: Datasheet; ComponentLink1URL: https://wmsc.lcsc.com/wmsc/upload/file/pdf/v2/lcsc/2304140030_TDK-NLCV32T-2R2M-EFD_C286545.pdf; ComponentLink2Description: JLCPCB Part URL; ComponentLink2URL: https://jlcpcb.com/partdetail/C286545; ComponentLink3Description: LCSC Part URL; ComponentLink3URL: https://lcsc.com/product-detail/Inductors-SMD_TDK-TDK-NLCV32T-2R2M-EFD_C286545.html
footprint IND-1210 (1210 (3225M) Inductor)
pins: 1, 2

## NLCV32T-2R2M-EFR
designator L?  Inductance: 2.2uH
Inductor, 2.2uH, ±20%, 115mΩ, 1.2A, SMD 1210; Manufacturer: TDK; Manufacturer Part Number: NLCV32T-2R2M-EFR; Self-Resonant Frequency: 68MHz; Q Factor: 15@7.96MHz; Package Size: 1210; JLCPCB Basic Part: No; JLCPCB Part Number: C295335; Supplier 1: LCSC; Category: Inductors; Supplier Part Number 1: C295335; Tolerance: ±20%; Rated Current: 1.2A; DC Resistance: 115mΩ; RoHS: Yes; ComponentLink1Description: Datasheet; ComponentLink1URL: https://wmsc.lcsc.com/wmsc/upload/file/pdf/v2/lcsc/2304140030_TDK-NLCV32T-2R2M-EFR_C295335.pdf; ComponentLink2Description: JLCPCB Part URL; ComponentLink2URL: https://jlcpcb.com/partdetail/C295335; ComponentLink3Description: LCSC Part URL; ComponentLink3URL: https://lcsc.com/product-detail/Inductors-SMD_TDK-TDK-NLCV32T-2R2M-EFR_C295335.html
footprint IND-1210 (1210 (3225M) Inductor)
pins: 1, 2

## NLCV32T-2R2M-EFRD
designator L?  Inductance: 2.2uH
Inductor, 2.2uH, ±20%, 115mΩ, 1.2A, SMD 1210; Manufacturer: TDK; Manufacturer Part Number: NLCV32T-2R2M-EFRD; Q Factor: 15@7.96MHz; Package Size: 1210; JLCPCB Basic Part: No; JLCPCB Part Number: C295402; Supplier 1: LCSC; Category: Inductors; Supplier Part Number 1: C295402; Tolerance: ±20%; Rated Current: 1.2A; DC Resistance: 115mΩ; RoHS: Yes; ComponentLink1Description: Datasheet; ComponentLink1URL: https://wmsc.lcsc.com/wmsc/upload/file/pdf/v2/lcsc/2304140030_TDK-NLCV32T-2R2M-EFRD_C295402.pdf; ComponentLink2Description: JLCPCB Part URL; ComponentLink2URL: https://jlcpcb.com/partdetail/C295402; ComponentLink3Description: LCSC Part URL; ComponentLink3URL: https://lcsc.com/product-detail/Inductors-SMD_TDK-TDK-NLCV32T-2R2M-EFRD_C295402.html
footprint IND-1210 (1210 (3225M) Inductor)
pins: 1, 2

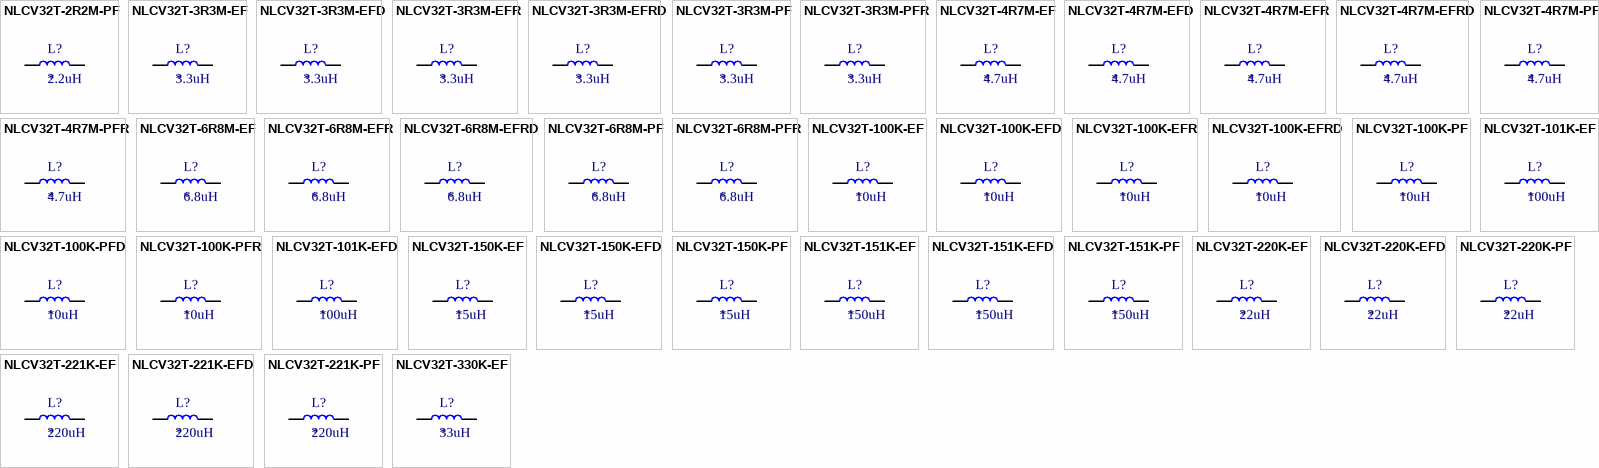
[diagram p5: symbols NLCV32T-2R2M-PF to NLCV32T-330K-EF]

## NLCV32T-2R2M-PF
designator L?  Inductance: 2.2uH
Inductor, 2.2uH, ±20%, 130mΩ, 770mA, SMD 1210; Manufacturer: TDK; Manufacturer Part Number: NLCV32T-2R2M-PF; Self-Resonant Frequency: 68MHz; Q Factor: 10@7.96MHz; Package Size: 1210; JLCPCB Basic Part: No; JLCPCB Part Number: C250183; Supplier 1: LCSC; Category: Inductors; Supplier Part Number 1: C250183; Tolerance: ±20%; Rated Current: 770mA; DC Resistance: 130mΩ; RoHS: Yes; ComponentLink1Description: Datasheet; ComponentLink1URL: https://wmsc.lcsc.com/wmsc/upload/file/pdf/v2/lcsc/2304140030_TDK-NLCV32T-2R2M-PF_C250183.pdf; ComponentLink2Description: JLCPCB Part URL; ComponentLink2URL: https://jlcpcb.com/partdetail/C250183; ComponentLink3Description: LCSC Part URL; ComponentLink3URL: https://lcsc.com/product-detail/Inductors-SMD_TDK-TDK-NLCV32T-2R2M-PF_C250183.html
footprint IND-1210 (1210 (3225M) Inductor)
pins: 1, 2

## NLCV32T-3R3M-EF
designator L?  Inductance: 3.3uH
Inductor, 3.3uH, ±20%, 160mΩ, 690mA, SMD 1210; Manufacturer: TDK; Manufacturer Part Number: NLCV32T-3R3M-EF; Self-Resonant Frequency: 54MHz; Q Factor: 10@7.96MHz; Package Size: 1210; JLCPCB Basic Part: No; JLCPCB Part Number: C250228; Supplier 1: LCSC; Category: Inductors; Supplier Part Number 1: C250228; Tolerance: ±20%; Rated Current: 690mA; DC Resistance: 160mΩ; RoHS: Yes; ComponentLink1Description: Datasheet; ComponentLink1URL: https://wmsc.lcsc.com/wmsc/upload/file/pdf/v2/lcsc/2304140030_TDK-NLCV32T-3R3M-EF_C250228.pdf; ComponentLink2Description: JLCPCB Part URL; ComponentLink2URL: https://jlcpcb.com/partdetail/C250228; ComponentLink3Description: LCSC Part URL; ComponentLink3URL: https://lcsc.com/product-detail/Inductors-SMD_TDK-TDK-NLCV32T-3R3M-EF_C250228.html
footprint IND-1210 (1210 (3225M) Inductor)
pins: 1, 2

## NLCV32T-3R3M-EFD
designator L?  Inductance: 3.3uH
Inductor, 3.3uH, ±20%, 160mΩ, 690mA, SMD 1210; Manufacturer: TDK; Manufacturer Part Number: NLCV32T-3R3M-EFD; Self-Resonant Frequency: 54MHz; Q Factor: 10@7.96MHz; Package Size: 1210; JLCPCB Basic Part: No; JLCPCB Part Number: C295385; Supplier 1: LCSC; Category: Inductors; Supplier Part Number 1: C295385; Tolerance: ±20%; Rated Current: 690mA; DC Resistance: 160mΩ; RoHS: Yes; ComponentLink1Description: Datasheet; ComponentLink1URL: https://wmsc.lcsc.com/wmsc/upload/file/pdf/v2/lcsc/2304140030_TDK-NLCV32T-3R3M-EFD_C295385.pdf; ComponentLink2Description: JLCPCB Part URL; ComponentLink2URL: https://jlcpcb.com/partdetail/C295385; ComponentLink3Description: LCSC Part URL; ComponentLink3URL: https://lcsc.com/product-detail/Inductors-SMD_TDK-TDK-NLCV32T-3R3M-EFD_C295385.html
footprint IND-1210 (1210 (3225M) Inductor)
pins: 1, 2

## NLCV32T-3R3M-EFR
designator L?  Inductance: 3.3uH
Inductor, 3.3uH, ±20%, 160mΩ, 1A, SMD 1210; Manufacturer: TDK; Manufacturer Part Number: NLCV32T-3R3M-EFR; Self-Resonant Frequency: 54MHz; Q Factor: 15@7.96MHz; Package Size: 1210; JLCPCB Basic Part: No; JLCPCB Part Number: C295198; Supplier 1: LCSC; Category: Inductors; Supplier Part Number 1: C295198; Tolerance: ±20%; Rated Current: 1A; DC Resistance: 160mΩ; RoHS: Yes; ComponentLink1Description: Datasheet; ComponentLink1URL: https://wmsc.lcsc.com/wmsc/upload/file/pdf/v2/lcsc/2304140030_TDK-NLCV32T-3R3M-EFR_C295198.pdf; ComponentLink2Description: JLCPCB Part URL; ComponentLink2URL: https://jlcpcb.com/partdetail/C295198; ComponentLink3Description: LCSC Part URL; ComponentLink3URL: https://lcsc.com/product-detail/Inductors-SMD_TDK-TDK-NLCV32T-3R3M-EFR_C295198.html
footprint IND-1210 (1210 (3225M) Inductor)
pins: 1, 2

## NLCV32T-3R3M-EFRD
designator L?  Inductance: 3.3uH
Inductor, 3.3uH, ±20%, 160mΩ, 1A, SMD 1210; Manufacturer: TDK; Manufacturer Part Number: NLCV32T-3R3M-EFRD; Q Factor: 15@7.96MHz; Package Size: 1210; JLCPCB Basic Part: No; JLCPCB Part Number: C295403; Supplier 1: LCSC; Category: Inductors; Supplier Part Number 1: C295403; Tolerance: ±20%; Rated Current: 1A; DC Resistance: 160mΩ; RoHS: Yes; ComponentLink1Description: Datasheet; ComponentLink1URL: https://wmsc.lcsc.com/wmsc/upload/file/pdf/v2/lcsc/2304140030_TDK-NLCV32T-3R3M-EFRD_C295403.pdf; ComponentLink2Description: JLCPCB Part URL; ComponentLink2URL: https://jlcpcb.com/partdetail/C295403; ComponentLink3Description: LCSC Part URL; ComponentLink3URL: https://lcsc.com/product-detail/Inductors-SMD_TDK-TDK-NLCV32T-3R3M-EFRD_C295403.html
footprint IND-1210 (1210 (3225M) Inductor)
pins: 1, 2

## NLCV32T-3R3M-PF
designator L?  Inductance: 3.3uH
Inductor, 3.3uH, ±20%, 160mΩ, 690mA, SMD 1210; Manufacturer: TDK; Manufacturer Part Number: NLCV32T-3R3M-PF; Self-Resonant Frequency: 54MHz; Q Factor: 10@7.96MHz; Package Size: 1210; JLCPCB Basic Part: No; JLCPCB Part Number: C250184; Supplier 1: LCSC; Category: Inductors; Supplier Part Number 1: C250184; Tolerance: ±20%; Rated Current: 690mA; DC Resistance: 160mΩ; RoHS: Yes; ComponentLink1Description: Datasheet; ComponentLink1URL: https://wmsc.lcsc.com/wmsc/upload/file/pdf/v2/lcsc/2304140030_TDK-NLCV32T-3R3M-PF_C250184.pdf; ComponentLink2Description: JLCPCB Part URL; ComponentLink2URL: https://jlcpcb.com/partdetail/C250184; ComponentLink3Description: LCSC Part URL; ComponentLink3URL: https://lcsc.com/product-detail/Inductors-SMD_TDK-TDK-NLCV32T-3R3M-PF_C250184.html
footprint IND-1210 (1210 (3225M) Inductor)
pins: 1, 2

## NLCV32T-3R3M-PFR
designator L?  Inductance: 3.3uH
Inductor, 3.3uH, ±20%, 160mΩ, 1A, SMD 1210; Manufacturer: TDK; Manufacturer Part Number: NLCV32T-3R3M-PFR; Self-Resonant Frequency: 54MHz; Q Factor: 15@7.96MHz; Package Size: 1210; JLCPCB Basic Part: No; JLCPCB Part Number: C501991; Supplier 1: LCSC; Category: Inductors; Supplier Part Number 1: C501991; Tolerance: ±20%; Rated Current: 1A; DC Resistance: 160mΩ; RoHS: Yes; ComponentLink1Description: Datasheet; ComponentLink1URL: https://wmsc.lcsc.com/wmsc/upload/file/pdf/v2/lcsc/2304140030_TDK-NLCV32T-3R3M-PFR_C501991.pdf; ComponentLink2Description: JLCPCB Part URL; ComponentLink2URL: https://jlcpcb.com/partdetail/C501991; ComponentLink3Description: LCSC Part URL; ComponentLink3URL: https://lcsc.com/product-detail/Inductors-SMD_TDK-TDK-NLCV32T-3R3M-PFR_C501991.html
footprint IND-1210 (1210 (3225M) Inductor)
pins: 1, 2

## NLCV32T-4R7M-EF
designator L?  Inductance: 4.7uH
Inductor, 4.7uH, ±20%, 200mΩ, 620mA, SMD 1210; Manufacturer: TDK; Manufacturer Part Number: NLCV32T-4R7M-EF; Self-Resonant Frequency: 46MHz; Q Factor: 15@7.96MHz; Package Size: 1210; JLCPCB Basic Part: No; JLCPCB Part Number: C250229; Supplier 1: LCSC; Category: Inductors; Supplier Part Number 1: C250229; Tolerance: ±20%; Rated Current: 620mA; DC Resistance: 200mΩ; RoHS: Yes; ComponentLink1Description: Datasheet; ComponentLink1URL: https://wmsc.lcsc.com/wmsc/upload/file/pdf/v2/lcsc/2304140030_TDK-NLCV32T-4R7M-EF_C250229.pdf; ComponentLink2Description: JLCPCB Part URL; ComponentLink2URL: https://jlcpcb.com/partdetail/C250229; ComponentLink3Description: LCSC Part URL; ComponentLink3URL: https://lcsc.com/product-detail/Inductors-SMD_TDK-TDK-NLCV32T-4R7M-EF_C250229.html
footprint IND-1210 (1210 (3225M) Inductor)
pins: 1, 2

## NLCV32T-4R7M-EFD
designator L?  Inductance: 4.7uH
Inductor, 4.7uH, ±20%, 200mΩ, 620mA, SMD 1210; Manufacturer: TDK; Manufacturer Part Number: NLCV32T-4R7M-EFD; Self-Resonant Frequency: 46MHz; Q Factor: 15@7.96MHz; Package Size: 1210; JLCPCB Basic Part: No; JLCPCB Part Number: C286547; Supplier 1: LCSC; Category: Inductors; Supplier Part Number 1: C286547; Tolerance: ±20%; Rated Current: 620mA; DC Resistance: 200mΩ; RoHS: Yes; ComponentLink1Description: Datasheet; ComponentLink1URL: https://wmsc.lcsc.com/wmsc/upload/file/pdf/v2/lcsc/2304140030_TDK-NLCV32T-4R7M-EFD_C286547.pdf; ComponentLink2Description: JLCPCB Part URL; ComponentLink2URL: https://jlcpcb.com/partdetail/C286547; ComponentLink3Description: LCSC Part URL; ComponentLink3URL: https://lcsc.com/product-detail/Inductors-SMD_TDK-TDK-NLCV32T-4R7M-EFD_C286547.html
footprint IND-1210 (1210 (3225M) Inductor)
pins: 1, 2

## NLCV32T-4R7M-EFR
designator L?  Inductance: 4.7uH
Inductor, 4.7uH, ±20%, 200mΩ, 900mA, SMD 1210; Manufacturer: TDK; Manufacturer Part Number: NLCV32T-4R7M-EFR; Q Factor: 15@7.96MHz; Package Size: 1210; JLCPCB Basic Part: No; JLCPCB Part Number: C286548; Supplier 1: LCSC; Category: Inductors; Supplier Part Number 1: C286548; Tolerance: ±20%; Rated Current: 900mA; DC Resistance: 200mΩ; RoHS: Yes; ComponentLink1Description: Datasheet; ComponentLink1URL: https://wmsc.lcsc.com/wmsc/upload/file/pdf/v2/lcsc/2304140030_TDK-NLCV32T-4R7M-EFR_C286548.pdf; ComponentLink2Description: JLCPCB Part URL; ComponentLink2URL: https://jlcpcb.com/partdetail/C286548; ComponentLink3Description: LCSC Part URL; ComponentLink3URL: https://lcsc.com/product-detail/Inductors-SMD_TDK-TDK-NLCV32T-4R7M-EFR_C286548.html
footprint IND-1210 (1210 (3225M) Inductor)
pins: 1, 2

## NLCV32T-4R7M-EFRD
designator L?  Inductance: 4.7uH
Inductor, 4.7uH, ±20%, 200mΩ, 900mA, SMD 1210; Manufacturer: TDK; Manufacturer Part Number: NLCV32T-4R7M-EFRD; Q Factor: 15@7.96MHz; Package Size: 1210; JLCPCB Basic Part: No; JLCPCB Part Number: C295404; Supplier 1: LCSC; Category: Inductors; Supplier Part Number 1: C295404; Tolerance: ±20%; Rated Current: 900mA; DC Resistance: 200mΩ; RoHS: Yes; ComponentLink1Description: Datasheet; ComponentLink1URL: https://wmsc.lcsc.com/wmsc/upload/file/pdf/v2/lcsc/2304140030_TDK-NLCV32T-4R7M-EFRD_C295404.pdf; ComponentLink2Description: JLCPCB Part URL; ComponentLink2URL: https://jlcpcb.com/partdetail/C295404; ComponentLink3Description: LCSC Part URL; ComponentLink3URL: https://lcsc.com/product-detail/Inductors-SMD_TDK-TDK-NLCV32T-4R7M-EFRD_C295404.html
footprint IND-1210 (1210 (3225M) Inductor)
pins: 1, 2